# Altium schematic symbol library Schlib1.SchLib: 6 symbols
Pins are listed as number, name and electrical type; pins without a type are passive.

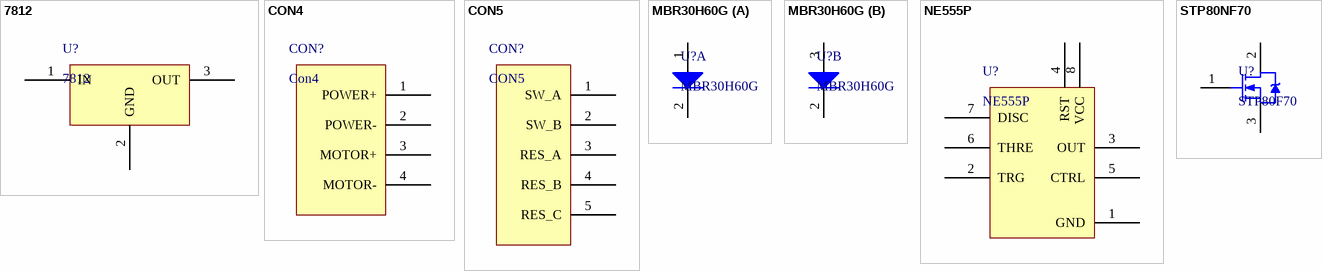
[diagram p0: symbols 7812 to STP80NF70]

## 7812
designator U?
POSITIVE VOLTAGE REGULATORS
pins: 1 IN, 2 GND, 3 OUT

## CON4
designator CON?, comment Con4
pins: 1 POWER+, 2 POWER-, 3 MOTOR+, 4 MOTOR-

## CON5
designator CON?
pins: 1 SW_A, 2 SW_B, 3 RES_A, 4 RES_B, 5 RES_C

## MBR30H60G
designator U?
60V, 30A SCHOTTKY
part A pins: 1 A, 2 K
part B pins: 2 K, 3 A

## NE555P
designator U?
GENERAL PURPOSE SINGLE BIPOLAR TIMERS
pins: 1 GND, 2 TRG, 3 OUT, 4 RST, 5 CTRL, 6 THRE, 7 DISC, 8 VCC

## STP80NF70
designator U?, comment STP80F70
N-channel 68 V, 0.0082 Ω, 98 A, TO-220 MOSFET
pins: 1 G, 2 D, 3 S